# EAGLE library part MCP2515-E/ST (library MCP2515-E_ST)
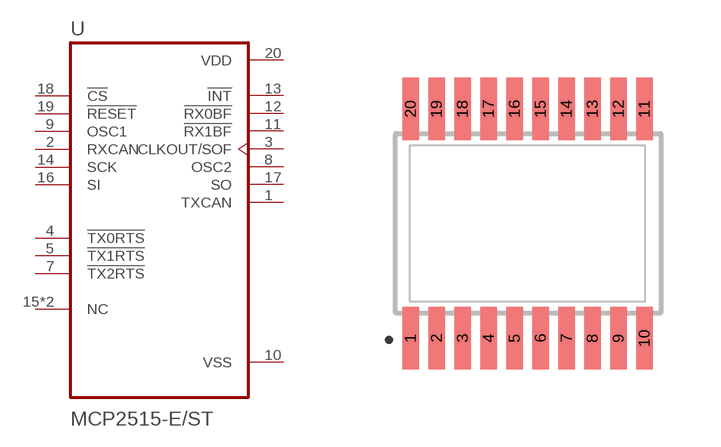
[diagram p0: symbol with the pads of SOP65P640X120-20N; footprint SOP65P640X120-20N]

Designator prefix U

## MCP2515-E/ST (Availability: Unavailable; Description: CANbus Controller CAN 2.0 SPI Interface 20-TSSOP; MF: Microchip; MP: MCP2515-E/ST; Package: TSSOP-20 Microchip; Price: None)  [SOP65P640X120-20N]
1  TXCAN  out
2  RXCAN  in
3  CLKOUT/SOF  out
4  !TX0RTS
5  !TX1RTS
6  NC
7  !TX2RTS
8  OSC2  out
9  OSC1  in
10  VSS  pwr
11  !RX1BF  out
12  !RX0BF  out
13  !INT  out
14  SCK  in
15  NC
16  SI  in
17  SO  out
18  !CS  in
19  !RESET  in
20  VDD  pwr

## Footprint SOP65P640X120-20N (pad centres in mm)
Thin Shrink Small Outline Plastic 20
smd 0.41 x 1.57: 1 -2.925,-2.87; 2 -2.275,-2.87; 3 -1.625,-2.87; 4 -0.975,-2.87; 5 -0.325,-2.87; 6 0.325,-2.87; 7 0.975,-2.87; 8 1.625,-2.87; 9 2.275,-2.87; 10 2.925,-2.87; 11 2.925,2.87; 12 2.275,2.87; 13 1.625,2.87; 14 0.975,2.87; 15 0.325,2.87; 16 -0.325,2.87; 17 -0.975,2.87; 18 -1.625,2.87; 19 -2.275,2.87; 20 -2.925,2.87